# EAGLE library part TEA1104 (library raznoe01)
tea1104
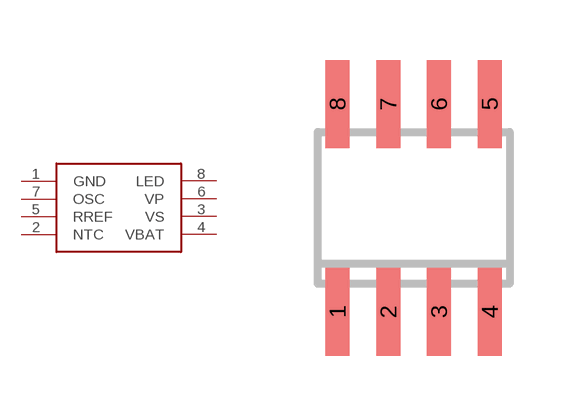
[diagram p0: symbol with the pads of SOIC-8; footprint SOIC-8]

Designator prefix -

## TEA1104  [SOIC-8]
1  GND
2  NTC
3  VS
4  VBAT
5  RREF
6  VP
7  OSC
8  LED

## Footprint SOIC-8 (pad centres in mm)
soic8 so8 soic soic-8
smd 0.6 x 2.2: 1 -1.905,-2.6; 2 -0.635,-2.6; 3 0.635,-2.6; 4 1.905,-2.6; 5 1.905,2.6; 6 0.635,2.6; 7 -0.635,2.6; 8 -1.905,2.6